# EAGLE library part NODEMCU (library NODEMCU)
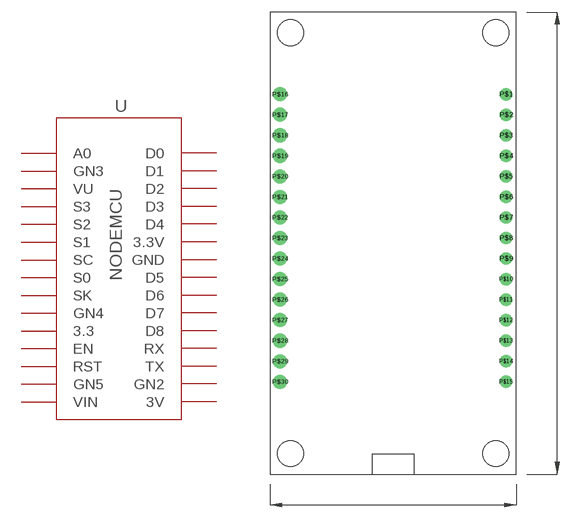
[diagram p0: symbol with the pads of NODEMCU; footprint NODEMCU]

Designator prefix -

## NODEMCU  [NODEMCU]
P$1  D0
P$2  D1
P$3  D2
P$4  D3
P$5  D4
P$6  3.3V
P$7  GND
P$8  D5
P$9  D6
P$10  D7
P$11  D8
P$12  RX
P$13  TX
P$14  GN2
P$15  3V
P$16  A0
P$17  GN3
P$18  VU
P$19  S3
P$20  S2
P$21  S1
P$22  SC
P$23  S0
P$24  SK
P$25  GN4
P$26  3.3
P$27  EN
P$28  RST
P$29  GN5
P$30  VIN

## Footprint NODEMCU (pad centres in mm)
drill 1.016: P$1 29.21,46.99; P$2 29.21,44.45; P$3 29.21,41.91; P$4 29.21,39.37; P$5 29.21,36.83; P$6 29.21,34.29; P$7 29.21,31.75; P$8 29.21,29.21; P$9 29.21,26.67; P$10 29.21,24.13; P$11 29.21,21.59; P$12 29.21,19.05; P$13 29.21,16.51; P$14 29.21,13.97; P$15 29.21,11.43
drill 1.16: P$16 1.27,46.99; P$17 1.27,44.45; P$18 1.27,41.91; P$19 1.27,39.37; P$20 1.27,36.83; P$21 1.27,34.29; P$22 1.27,31.75; P$23 1.27,29.21; P$24 1.27,26.67; P$25 1.27,24.13; P$26 1.27,21.59; P$27 1.27,19.05; P$28 1.27,16.51; P$29 1.27,13.97; P$30 1.27,11.43
hole 3.2 at 27.94,54.61
hole 3.2 at 2.54,54.61
hole 3.2 at 27.94,2.54
hole 3.2 at 2.54,2.54